# EAGLE library part ISL85415 (library DMF-TPS63020_SON-N14)
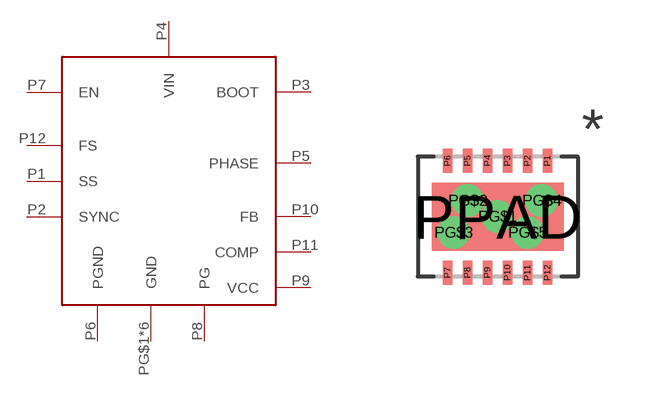
[diagram p1: symbol with the pads of 12LD3X4DFN; footprint 12LD3X4DFN]

Designator prefix -

## ISL85415  [12LD3X4DFN]
P1  SS
P2  SYNC
P3  BOOT
P4  VIN
P5  PHASE
P6  PGND
P7  EN
P8  PG
P9  VCC
P10  FB
P11  COMP
P12  FS
PG$1  GND
PG$2  GND
PG$3  GND
PG$4  GND
PG$5  GND
PPAD  GND

## Footprint 12LD3X4DFN (pad centres in mm)
smd 0.23 x 0.6: P1 1.25,1.4; P2 0.75,1.4; P3 0.25,1.4; P4 -0.25,1.4; P5 -0.75,1.4; P6 -1.25,1.4; P7 -1.25,-1.4; P8 -0.75,-1.4; P9 -0.25,-1.4; P10 0.25,-1.4; P11 0.75,-1.4; P12 1.25,-1.4
drill 0.305: PG$1 0,0; PG$2 -0.75,0.4; PG$3 -1.1,-0.4; PG$4 1.1,0.4; PG$5 0.75,-0.4
smd 3.3 x 1.7: PPAD 0,0